# Altium footprint library ESP32_Mobile_Robot.PcbLib: 1 footprints
Each footprint in its own frame and in the unit in brackets; x right, y up, seen from the top. Pads: shape width x height; smd on the part's side, far side on the other; paste and mask are expansions set on the pad; w line width, h text height; cw(c..) or ccw(c..) is an arc to the next point about the centre after c.
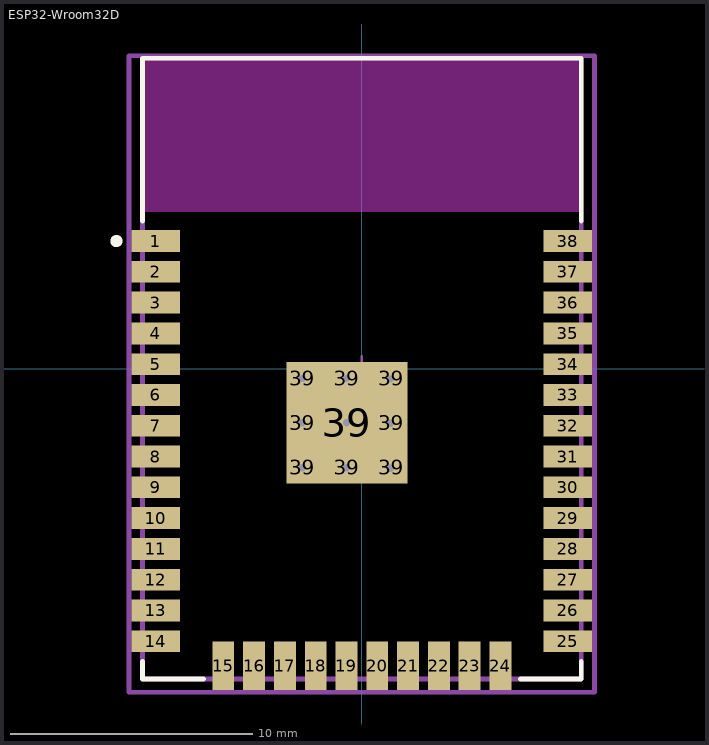
[diagram p0: the footprint, top view; thin cyan lines are the x and y axes]

## ESP32-Wroom32D [mm] "WiFI ESP32 module with a pcb antenna"
pads (47):
  rect 2x0.9 smd paste+0 mask+0: 1(-8.5,5.26) 2(-8.5,3.99) 3(-8.5,2.72) 4(-8.5,1.45) 5(-8.5,0.18) 6(-8.5,-1.09) 7(-8.5,-2.36) 8(-8.5,-3.63) 9(-8.5,-4.9) 10(-8.5,-6.17) 11(-8.5,-7.44) 12(-8.5,-8.71) 13(-8.5,-9.98) 14(-8.5,-11.25) 25(8.5,-11.25) 26(8.5,-9.98) 27(8.5,-8.71) 28(8.5,-7.44) 29(8.5,-6.17) 30(8.5,-4.9) 31(8.5,-3.63) 32(8.5,-2.36) 33(8.5,-1.09) 34(8.5,0.18) 35(8.5,1.45) 36(8.5,2.72) 37(8.5,3.99) 38(8.5,5.26)
  rect 0.9x2 smd paste+0 mask+0: 15(-5.715,-12.25) 16(-4.445,-12.25) 17(-3.175,-12.25) 18(-1.905,-12.25) 19(-0.635,-12.25) 20(0.635,-12.25) 21(1.905,-12.25) 22(3.175,-12.25) 23(4.445,-12.25) 24(5.715,-12.25)
  rect 1.33x1.33 smd paste+0 mask+0: 39(-2.454,-4.075) 39(-2.454,-2.24) 39(-2.454,-0.405) 39(-0.619,-4.075) 39(-0.619,-0.405) 39(1.216,-4.075) 39(1.216,-2.24) 39(1.216,-0.405)
  rect 5x5 smd paste+0 mask+0: 39(-0.619,-2.24)
via -2.464,-0.406 diameter 0.5 hole 0.3
via -0.635,-0.406 diameter 0.5 hole 0.3
via 1.168,-0.432 diameter 0.5 hole 0.3
via -2.464,-2.235 diameter 0.5 hole 0.3
via -0.635,-2.235 diameter 0.5 hole 0.3
via 1.168,-2.261 diameter 0.5 hole 0.3
via -2.464,-4.089 diameter 0.5 hole 0.3
via -0.635,-4.089 diameter 0.5 hole 0.3
via 1.168,-4.115 diameter 0.5 hole 0.3
Top Overlay:
  circle w0.25: c-10.125,5.26 r0.125
  lines w0.2: -9.05,-12.075 -9.05,-12.8 -6.54,-12.8 ; -9.05,6.085 -9.05,12.8 9.05,12.8 9.05,6.085 ; 6.54,-12.8 9.05,-12.8 9.05,-12.075
Keep-Out Layer:
  rectangle: -9,6.45 9,12.75
  rectangle: -9,6.45 9,12.75
Top Assembly:
  lines w0.2: -9.6,-13.35 -9.6,12.9 9.6,12.9 9.6,-13.35 -9.6,-13.35
  text ".Designator" at 0,-0.037 h1
Top 3D Body:
  lines w0.2: -9.05,-12.8 -9.05,12.8 9.05,12.8 9.05,-12.8 -9.05,-12.8
Top Courtyard:
  lines w0.2: -9.6,-13.35 -9.6,12.9 9.6,12.9 9.6,-13.35 -9.6,-13.35
Top Component Center:
  lines w0.1: -0.5,0 0.5,0 ; 0,-0.5 0,0.5
3D body "UNK_Espressif_Systems_ESP32-WROOM-32_eec.STEP": height 3.2, standoff 0, extent -9,-12.75 9,12.75